# Altium footprint library ZPWL.PcbLib: 168 footprints (part 8 of 11)
Each footprint in its own frame and in the unit in brackets; x right, y up, seen from the top. Pads: shape width x height; smd on the part's side, far side on the other; paste and mask are expansions set on the pad; w line width, h text height; cw(c..) or ccw(c..) is an arc to the next point about the centre after c.
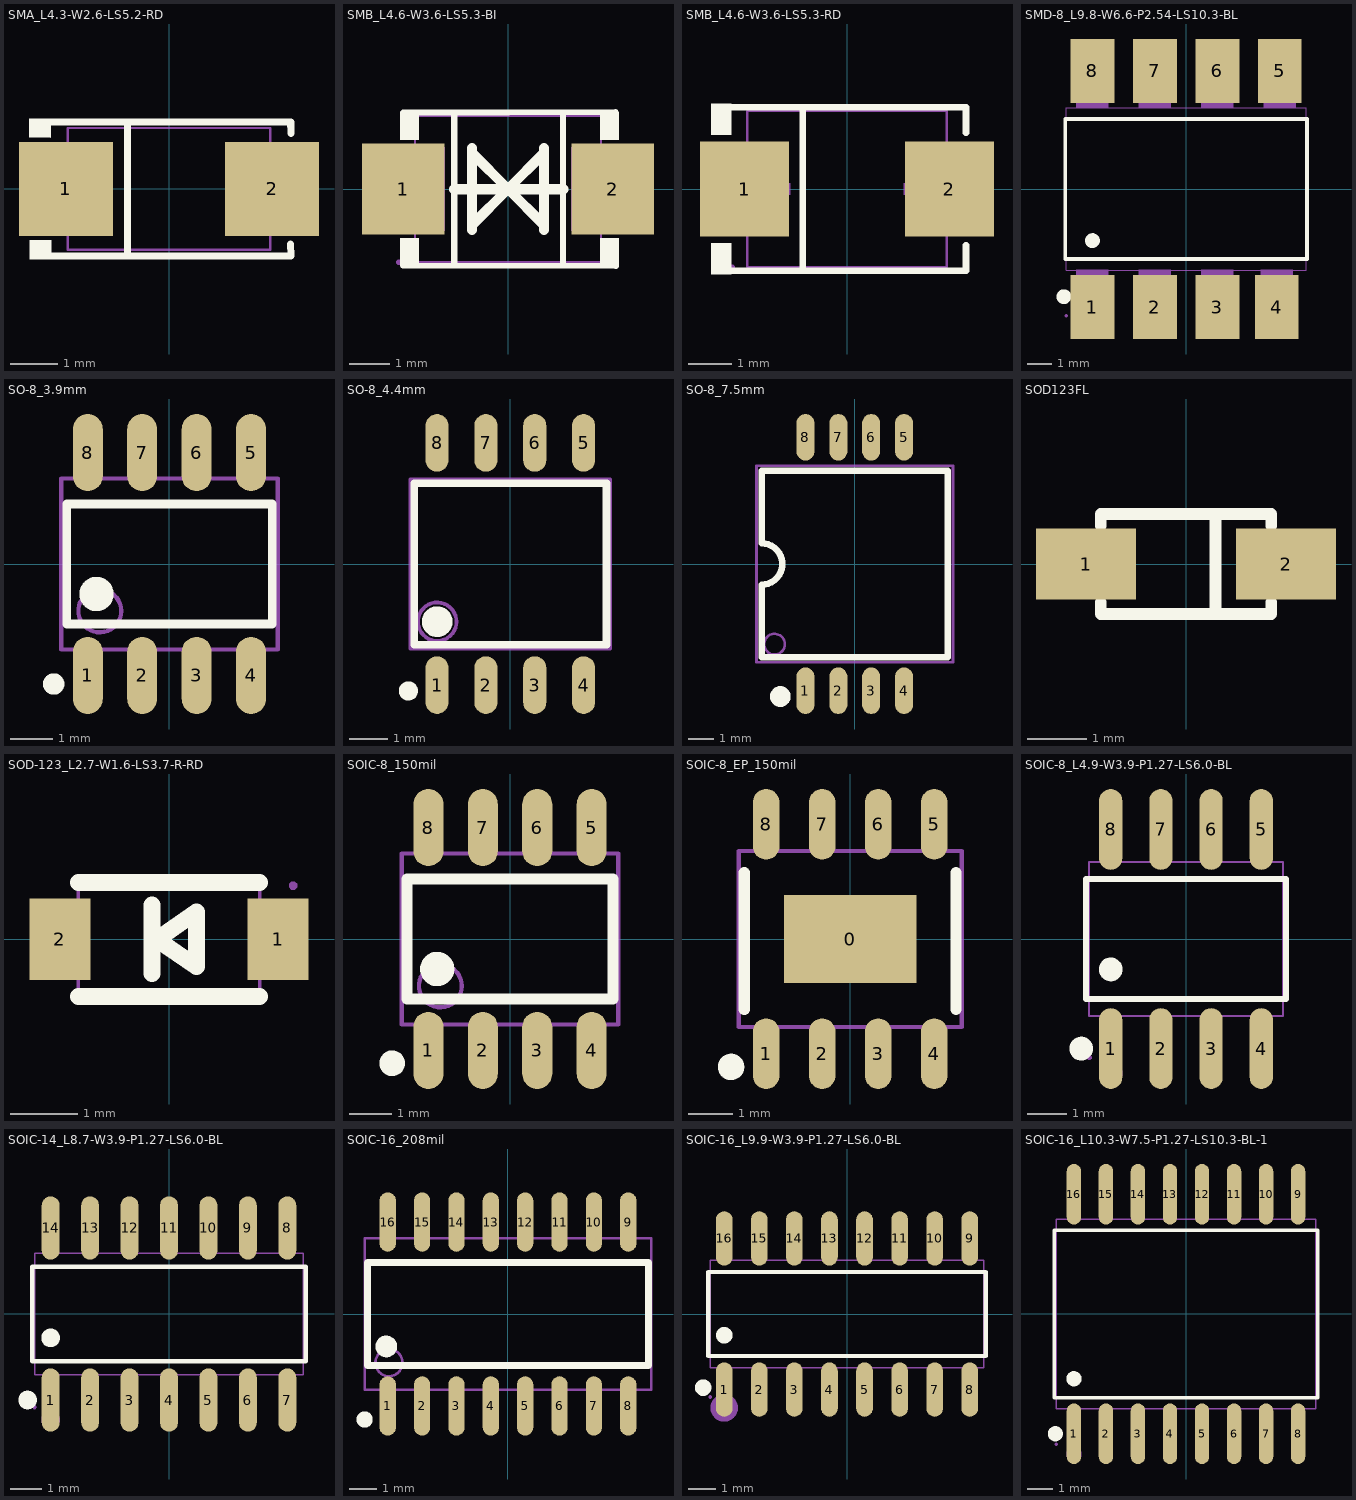
[diagram p7: the footprints below, top view; thin cyan lines are the x and y axes]

## SMA_L4.3-W2.6-LS5.2-RD [mm]
pads (2):
  rect 2x2 smd: 1(-2.2,0) 2(2.2,0)
Top Overlay:
  region: -2.52,1.502 -2.521,1.096 -2.981,1.1 -2.977,1.502
  region: -2.512,-1.096 -2.513,-1.503 -2.973,-1.498 -2.969,-1.096
  lines w0.152: -2.596,-1.426 2.596,-1.426 ; -2.596,1.426 2.596,1.426 2.603,1.187 ; -0.884,-1.426 -0.884,1.426 ; 2.593,-1.176 2.6,-1.415
Mechanical 6:
  region: -2.317,-0.101 -2.317,0.101 -1.507,0.101 -1.507,-0.101
  region: 2.29,-0.09 2.29,0.112 1.48,0.112 1.48,-0.09
  region: 2.014,-0.675 2.014,0.675 1.811,0.675 1.811,-0.675
Mechanical 15:
  region: -2.545,-1.3 -2.545,-1.275 -2.58,-1.24 -2.63,-1.24 -2.665,-1.275 -2.665,-1.3 -2.665,-1.325 -2.63,-1.36 -2.58,-1.36 -2.545,-1.325 -2.545,-1.3
  region: 2.605,0.725 2.605,-0.725 1.48,-0.725 1.48,0.725
  region: -1.48,0.725 -1.48,-0.725 -2.605,-0.725 -2.605,0.725
  lines w0.051: -2.16,-1.3 -2.16,1.3 2.16,1.3 2.16,-1.3 -2.16,-1.3

## SMB_L4.6-W3.6-LS5.3-BI [mm]
pads (2):
  rect 2.047x2.241 smd: 1(-2.591,0) 2(2.591,0)
Top Overlay:
  region: 2.286,-1.905 2.286,-1.215 2.743,-1.215 2.743,-1.905
  region: 2.286,1.905 2.286,1.215 2.743,1.215 2.743,1.905
  region: -2.667,1.905 -2.667,1.215 -2.21,1.215 -2.21,1.905
  region: -2.667,-1.905 -2.667,-1.215 -2.21,-1.215 -2.21,-1.905
  lines w0.152: -2.599,-1.89 2.667,-1.905 ; -2.591,1.887 2.663,1.905 ; -1.331,-1.886 -1.331,1.886 ; 1.364,-1.886 1.364,1.886
  lines w0.254: -1.331,-0.008 1.364,-0.008 ; 0,0 0.889,0.889 0.889,1.016 0.889,-1.016 0.889,-0.889 0,0 ; 0,0 -0.889,-0.889 -0.889,-1.016 -0.889,1.016 -0.889,0.889 0,0
Mechanical 15:
  region: -2.648,-1.81 -2.648,-1.785 -2.683,-1.75 -2.732,-1.75 -2.768,-1.785 -2.768,-1.81 -2.768,-1.835 -2.732,-1.87 -2.683,-1.87 -2.648,-1.835 -2.648,-1.81
  region: 2.708,1.037 2.708,-1.037 1.568,-1.037 1.568,1.037
  region: -2.708,1.037 -2.708,-1.037 -1.568,-1.037 -1.568,1.037
  lines w0.051: -2.3,-1.81 2.3,-1.81 2.3,1.81 -2.3,1.81 -2.3,-1.81

## SMB_L4.6-W3.6-LS5.3-RD [mm]
pads (2):
  rect 2.047x2.192 smd paste+0.051: 1(-2.361,0) 2(2.361,0)
Top Overlay:
  region: -2.668,-1.962 -2.668,-1.249 -3.125,-1.249 -3.125,-1.962
  region: -2.668,1.962 -2.668,1.249 -3.125,1.249 -3.125,1.962
  lines w0.152: -2.744,-1.886 2.744,-1.886 2.744,-1.299 ; -2.744,1.886 2.744,1.886 2.744,1.299 ; -1.016,-1.886 -1.016,1.886
Mechanical 2:
  region: 1.989,-0.905 1.989,0.905 1.717,0.905 1.717,-0.905
  region: 2.396,-0.136 2.396,0.136 1.31,0.136 1.31,-0.136
  region: -2.396,-0.136 -2.396,0.136 -1.31,0.136 -1.31,-0.136
Mechanical 6:
  lines w0.051: -2.3,-1.8 2.3,-1.8 2.3,1.8 -2.3,1.8 -2.3,-1.8
Mechanical 8:
  region: -2.59,-1.8 -2.59,-1.825 -2.625,-1.86 -2.674,-1.86 -2.709,-1.825 -2.709,-1.8 -2.709,-1.775 -2.674,-1.74 -2.625,-1.74 -2.59,-1.775 -2.59,-1.8
Mechanical 9:
  region: 2.649,-1.015 2.649,1.015 1.509,1.015 1.509,-1.015
  region: -2.649,-1.015 -2.649,1.015 -1.509,1.015 -1.509,-1.015
3D body "SMB.STEP": height 3.7, standoff 1.6, extent -2.726,-1.746 2.674,1.854

## SMD-8_L9.8-W6.6-P2.54-LS10.3-BL [mm]
pads (8):
  rect 1.78x2.6 smd: 1(-3.81,-4.8) 2(-1.27,-4.8) 3(1.27,-4.8) 4(3.683,-4.8) 5(3.81,4.8) 6(1.27,4.8) 7(-1.27,4.8) 8(-3.81,4.8)
Top Overlay:
  circle w0.3: c-3.81,-2.099 r0.15
  circle w0.3: c-4.974,-4.38 r0.15
  lines w0.152: -4.916,-2.851 -4.916,2.851 4.916,2.851 4.916,-2.851 -4.916,-2.851
Mechanical 6:
  circle w0.6: c-3.81,-5.334 r0.3
Mechanical 15:
  region: -4.82,-5.15 -4.82,-5.125 -4.855,-5.09 -4.905,-5.09 -4.94,-5.125 -4.94,-5.15 -4.94,-5.175 -4.905,-5.21 -4.855,-5.21 -4.82,-5.175 -4.82,-5.15
  region: 3.16,3.29 3.16,4.56 4.46,4.56 4.46,3.29
  region: 3.16,4.55 3.16,5.15 4.46,5.15 4.46,4.55
  region: 0.62,3.29 0.62,4.56 1.92,4.56 1.92,3.29
  region: 0.62,4.55 0.62,5.15 1.92,5.15 1.92,4.55
  region: -1.92,3.29 -1.92,4.56 -0.62,4.56 -0.62,3.29
  region: -1.92,4.55 -1.92,5.15 -0.62,5.15 -0.62,4.55
  region: -4.46,3.29 -4.46,4.56 -3.16,4.56 -3.16,3.29
  region: -4.46,4.55 -4.46,5.15 -3.16,5.15 -3.16,4.55
  region: 3.033,-4.56 3.033,-3.29 4.333,-3.29 4.333,-4.56
  region: 3.033,-5.15 3.033,-4.55 4.333,-4.55 4.333,-5.15
  region: 0.62,-4.56 0.62,-3.29 1.92,-3.29 1.92,-4.56
  region: 0.62,-5.15 0.62,-4.55 1.92,-4.55 1.92,-5.15
  region: -1.92,-4.56 -1.92,-3.29 -0.62,-3.29 -0.62,-4.56
  region: -1.92,-5.15 -1.92,-4.55 -0.62,-4.55 -0.62,-5.15
  region: -4.46,-4.56 -4.46,-3.29 -3.16,-3.29 -3.16,-4.56
  region: -4.46,-5.15 -4.46,-4.55 -3.16,-4.55 -3.16,-5.15
  lines w0.051: -4.88,-3.3 -4.88,3.3 4.88,3.3 4.88,-3.3 -4.88,-3.3

## SO-8_3.9mm [mm]
pads (8):
  oval 0.7x1.8 smd: 1(-1.905,-2.6) 2(-0.635,-2.6) 3(0.635,-2.6) 4(1.905,-2.6) 5(1.905,2.6) 6(0.635,2.6) 7(-0.635,2.6) 8(-1.905,2.6)
Top Overlay:
  circle w0.25: c-2.7,-2.8 r0.125
  circle w0.4: c-1.7,-0.7 r0.2
  lines w0.2: -2.4,-1.4 -2.4,1.4 2.4,1.4 2.4,-1.4 -2.4,-1.4
Mechanical 13:
  circle w0.1: c-1.625,-1.095 r0.5
  lines w0.1: -2.525,-1.995 -2.525,1.995 2.525,1.995 2.525,-1.995 -2.525,-1.995

## SO-8_4.4mm [mm]
pads (8):
  oval 0.6x1.5 smd: 1(-1.905,-3.15) 2(-0.635,-3.15) 3(0.635,-3.15) 4(1.905,-3.15) 5(1.905,3.15) 6(0.635,3.15) 7(-0.635,3.15) 8(-1.905,3.15)
Top Overlay:
  circle w0.4: c-1.9,-1.5 r0.2
  circle w0.25: c-2.65,-3.3 r0.125
  lines w0.2: -2.5,-2.1 2.5,-2.1 2.5,2.1 -2.5,2.1 -2.5,-2.1
Mechanical 13:
  circle w0.1: c-1.9,-1.5 r0.5
  lines w0.1: -2.6,-2.2 2.6,-2.2 2.6,2.2 -2.6,2.2 -2.6,-2.2

## SO-8_7.5mm [mm]
pads (8):
  oval 0.7x1.8 smd: 1(-1.905,-4.9) 2(-0.635,-4.9) 3(0.635,-4.9) 4(1.905,-4.9) 5(1.905,4.9) 6(0.635,4.9) 7(-0.635,4.9) 8(-1.905,4.9)
Top Overlay:
  circle w0.4: c-2.875,-5.125 r0.2
  lines w0.254: -3.6,-3.6 -3.6,-0.8 ccw(c-3.6,0) -3.6,0.8 -3.6,3.6 3.6,3.6 3.6,-3.6 -3.6,-3.6
Mechanical 13:
  circle w0.1: c-3.1,-3.1 r0.4
  lines w0.1: -3.8,-3.8 -3.8,3.8 3.8,3.8 3.8,-3.8 -3.8,-3.8

## SOD123FL [mm]
height 1.35
pads (2):
  rect 1.7x1.2 smd: 1(-1.7,0) 2(1.7,0)
Top Overlay:
  lines w0.2: -1.45,-0.65 -1.45,-0.85 1.45,-0.85 1.45,-0.65 ; -1.45,0.65 -1.45,0.85 1.45,0.85 1.45,0.65 ; 0.5,-0.85 0.5,0.85
3D body "SOD-123.STEP": height 1.2, standoff 0, extent -1.85,-0.8 1.85,0.8

## SOD-123_L2.7-W1.6-LS3.7-R-RD [mil]
pads (2):
  rect 35.8x48 smd: 1(64,0) 2(-64,0)
Top Overlay:
  lines w10: -53,-33.47 53,-33.47 ; -53,33.47 53,33.47 ; -10,-20 -10,20 ; -7,0 16,16 16,-16 -7,0
Mechanical 6:
  region: 46.85,8.35 80,8.35 80,0.2 46.82,0.2
  region: 60.02,-13.32 60.02,19.82 68.17,19.82 68.17,-13.35
  region: -80.38,4.87 -47.23,4.87 -47.23,-3.27 -80.4,-3.27
Mechanical 15:
  region: 75.2,31.5 75.2,32.47 73.81,33.86 71.86,33.86 70.47,32.47 70.47,31.5 70.47,30.52 71.86,29.13 73.81,29.13 75.2,30.52 75.2,31.5
  region: -59.45,-10.83 -59.45,10.83 -52.76,10.83 -52.76,-10.83
  region: -72.83,-10.83 -72.83,10.83 -59.05,10.83 -59.05,-10.83
  region: 52.76,-10.83 52.76,10.83 59.45,10.83 59.45,-10.83
  region: 59.05,-10.83 59.05,10.83 72.83,10.83 72.83,-10.83
  lines w2: -53.15,-31.5 -53.15,31.5 53.15,31.5 53.15,-31.5 -53.15,-31.5

## SOIC-8_150mil [mm]
pads (8):
  oval 0.7x1.8 smd: 1(-1.905,-2.6) 2(-0.635,-2.6) 3(0.635,-2.6) 4(1.905,-2.6) 5(1.905,2.6) 6(0.635,2.6) 7(-0.635,2.6) 8(-1.905,2.6)
Top Overlay:
  circle w0.3: c-2.75,-2.9 r0.15
  circle w0.4: c-1.7,-0.7 r0.2
  lines w0.254: -2.4,-1.4 2.4,-1.4 2.4,1.4 -2.4,1.4 -2.4,-1.4
Mechanical 13:
  circle w0.1: c-1.625,-1.095 r0.5
  lines w0.1: -2.525,-1.995 2.525,-1.995 2.525,1.995 -2.525,1.995 -2.525,-1.995

## SOIC-8_EP_150mil [mm]
pads (9):
  rect 3x2 smd: 0(0,0)
  oval 0.6x1.6 smd: 1(-1.905,-2.6) 2(-0.635,-2.6) 3(0.635,-2.6) 4(1.905,-2.6) 5(1.905,2.6) 6(0.635,2.6) 7(-0.635,2.6) 8(-1.905,2.6)
Top Overlay:
  circle w0.3: c-2.7,-2.9 r0.15
  lines w0.254: -2.4,-1.6 -2.4,1.5 ; 2.4,-1.6 2.4,1.5
Mechanical 13:
  lines w0.1: -2.525,-1.995 -2.525,1.995 2.525,1.995 2.525,-1.995 -2.525,-1.995

## SOIC-8_L4.9-W3.9-P1.27-LS6.0-BL [mm]
pads (8):
  oval 0.588x2.045 smd: 1(-1.905,-2.772) 2(-0.635,-2.772) 3(0.635,-2.772) 4(1.905,-2.772) 5(1.905,2.772) 6(0.635,2.772) 7(-0.635,2.772) 8(-1.905,2.772)
Top Overlay:
  circle w0.3: c-1.905,-0.769 r0.15
  circle w0.3: c-2.652,-2.772 r0.15
  lines w0.152: -2.526,-1.521 -2.526,1.521 2.526,1.521 2.526,-1.521 -2.526,-1.521
Mechanical 6:
  circle w0.3: c-1.905,-3.4 r0.15
Mechanical 15:
  region: -2.39,-3 -2.39,-2.975 -2.425,-2.94 -2.475,-2.94 -2.51,-2.975 -2.51,-3 -2.51,-3.025 -2.475,-3.06 -2.425,-3.06 -2.39,-3.025 -2.39,-3
  region: -2.115,-3 -2.115,-2.165 -1.695,-2.165 -1.695,-3
  region: -2.115,-2.175 -2.115,-1.94 -1.695,-1.94 -1.695,-2.175
  region: -0.845,-3 -0.845,-2.165 -0.425,-2.165 -0.425,-3
  region: -0.845,-2.175 -0.845,-1.94 -0.425,-1.94 -0.425,-2.175
  region: 0.425,-3 0.425,-2.165 0.845,-2.165 0.845,-3
  region: 0.425,-2.175 0.425,-1.94 0.845,-1.94 0.845,-2.175
  region: 1.695,-3 1.695,-2.165 2.115,-2.165 2.115,-3
  region: 1.695,-2.175 1.695,-1.94 2.115,-1.94 2.115,-2.175
  region: -2.115,3 -2.115,2.165 -1.695,2.165 -1.695,3
  region: -2.115,2.175 -2.115,1.94 -1.695,1.94 -1.695,2.175
  region: -0.845,3 -0.845,2.165 -0.425,2.165 -0.425,3
  region: -0.845,2.175 -0.845,1.94 -0.425,1.94 -0.425,2.175
  region: 0.425,3 0.425,2.165 0.845,2.165 0.845,3
  region: 0.425,2.175 0.425,1.94 0.845,1.94 0.845,2.175
  region: 1.695,3 1.695,2.165 2.115,2.165 2.115,3
  region: 1.695,2.175 1.695,1.94 2.115,1.94 2.115,2.175
  lines w0.051: -2.45,-1.95 -2.45,1.95 2.45,1.95 2.45,-1.95 -2.45,-1.95

## SOIC-14_L8.7-W3.9-P1.27-LS6.0-BL [mm]
pads (14):
  oval 0.574x2.038 smd: 1(-3.81,-2.769) 2(-2.54,-2.769) 3(-1.27,-2.769) 4(0,-2.769) 5(1.27,-2.769) 6(2.54,-2.769) 7(3.81,-2.769) 8(3.81,2.769) 9(2.54,2.769) 10(1.27,2.769) 11(0,2.769) 12(-1.27,2.769) 13(-2.54,2.769) 14(-3.81,2.769)
Top Overlay:
  circle w0.3: c-4.549,-2.769 r0.15
  circle w0.3: c-3.81,-0.769 r0.15
  lines w0.152: -4.401,-1.521 4.401,-1.521 4.401,1.521 -4.401,1.521 -4.401,-1.521
Mechanical 6:
  circle w0.3: c-3.81,-3.4 r0.15
Mechanical 15:
  drawing of 33 lines, arcs and shapes, not listed

## SOIC-16_208mil [mm]
pads (16):
  oval 0.6x2.2 smd: 1(-4.445,-3.4) 2(-3.175,-3.4) 3(-1.905,-3.4) 4(-0.635,-3.4) 5(0.635,-3.4) 6(1.905,-3.4) 7(3.175,-3.4) 8(4.445,-3.4) 9(4.445,3.4) 10(3.175,3.4) 11(1.905,3.4) 12(0.635,3.4) 13(-0.635,3.4) 14(-1.905,3.4) 15(-3.175,3.4) 16(-4.445,3.4)
Top Overlay:
  circle w0.4: c-4.5,-1.2 r0.2
  circle w0.3: c-5.3,-3.9 r0.15
  lines w0.254: -5.2,-1.9 -5.2,1.9 5.2,1.9 5.2,-1.9 -5.2,-1.9
Mechanical 13:
  circle w0.1: c-4.4,-1.8 r0.5
  lines w0.1: -5.3,-2.8 -5.3,2.8 5.3,2.8 5.3,-2.8 -5.3,-2.8

## SOIC-16_L9.9-W3.9-P1.27-LS6.0-BL [mm]
pads (16):
  oval 0.602x1.971 smd: 1(-4.445,-2.736) 2(-3.175,-2.736) 3(-1.905,-2.736) 4(-0.635,-2.736) 5(0.635,-2.736) 6(1.905,-2.736) 7(3.175,-2.736) 8(4.445,-2.736) 9(4.445,2.736) 10(3.175,2.736) 11(1.905,2.736) 12(0.635,2.736) 13(-0.635,2.736) 14(-1.905,2.736) 15(-3.175,2.736) 16(-4.445,2.736)
Top Overlay:
  circle w0.3: c-4.445,-0.769 r0.15
  circle w0.3: c-5.207,-2.667 r0.15
  lines w0.152: -5.026,-1.521 -5.026,1.521 5.026,1.521 5.026,-1.521 -5.026,-1.521
Mechanical 6:
  circle w0.5: c-4.445,-3.4 r0.25
Mechanical 15:
  drawing of 37 lines, arcs and shapes, not listed

## SOIC-16_L10.3-W7.5-P1.27-LS10.3-BL-1 [mil]
pads (16):
  oval 22.6x94.51 smd: 1(-175,-187.02) 2(-125,-187.02) 3(-75,-187.02) 4(-25,-187.02) 5(25,-187.02) 6(75,-187.02) 7(125,-187.02) 8(175,-187.02) 9(175,187.02) 10(125,187.02) 11(75,187.02) 12(25,187.02) 13(-25,187.02) 14(-75,187.02) 15(-125,187.02) 16(-175,187.02)
Top Overlay:
  circle w11.81: c-175,-101.14 r5.91
  circle w11.81: c-204.11,-187.02 r5.91
  lines w6: -205.76,-130.76 205.76,-130.76 205.76,130.76 -205.76,130.76 -205.76,-130.76
Mechanical 6:
  circle w11.81: c-175,-219 r5.91
Mechanical 15:
  drawing of 37 lines, arcs and shapes, not listed